# Altium schematic symbol library Schematic Library.SchLib: 1 symbol
Pins are listed as number, name and electrical type; pins without a type are passive.

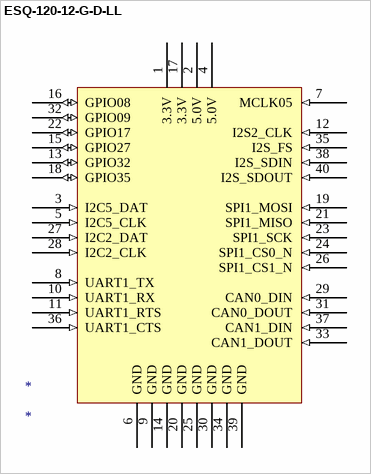
[diagram p0: symbol ESQ-120-12-G-D-LL]

## ESQ-120-12-G-D-LL
designator *
pins: 1 3.3V (power), 2 5.0V (power), 3 I2C5_DAT (in), 4 5.0V (power), 5 I2C5_CLK (in), 6 GND (power), 7 MCLK05 (in), 8 UART1_TX (in), 9 GND (power), 10 UART1_RX (in), 11 UART1_RTS (in), 12 I2S2_CLK (in), 13 GPIO32 (io), 14 GND (power), 15 GPIO27 (io), 16 GPIO08 (io), 17 3.3V (power), 18 GPIO35 (io), 19 SPI1_MOSI (in), 20 GND (power), 21 SPI1_MISO (in), 22 GPIO17 (io), 23 SPI1_SCK (in), 24 SPI1_CS0_N (in), 25 GND (power), 26 SPI1_CS1_N (in), 27 I2C2_DAT (in), 28 I2C2_CLK (in), 29 CAN0_DIN (in), 30 GND (power), 31 CAN0_DOUT (in), 32 GPIO09 (io), 33 CAN1_DOUT (in), 34 GND (power), 35 I2S_FS (in), 36 UART1_CTS (in), 37 CAN1_DIN (in), 38 I2S_SDIN (in), 39 GND (power), 40 I2S_SDOUT (in)